# EAGLE library part IND_VP2 (library wheat)
INDUCTOR, COILTRONICS VP2 SERIES
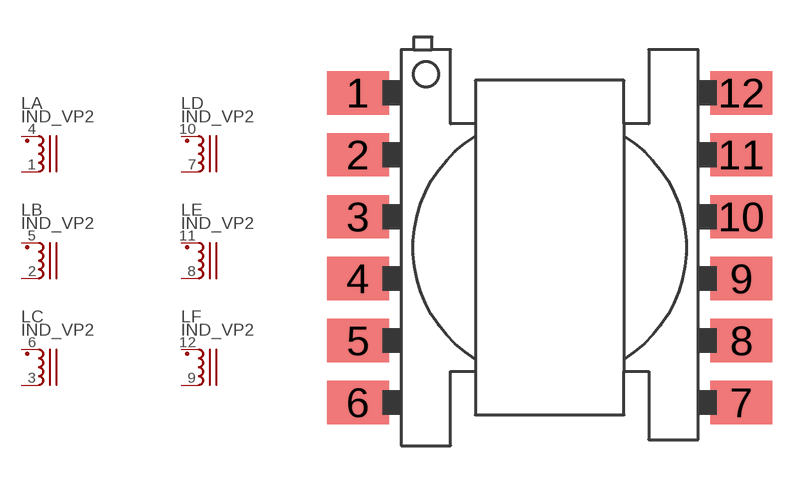
[diagram p65: symbol with the pads of IND_VP2; footprint IND_VP2]

Designator prefix L; gates A=IND B=IND C=IND D=IND E=IND F=IND

## IND_VP2  [IND_VP2]
1  A:2  pas
2  B:2  pas
3  C:2  pas
4  A:1  pas
5  B:1  pas
6  C:1  pas
7  D:2  pas
8  E:2  pas
9  F:2  pas
10  D:1  pas
11  E:1  pas
12  F:1  pas

## Footprint IND_VP2 (pad centres in mm)
Inductor/transformer, Coiltronics VP2
smd 2.5 x 1.75: 1 -7.75,6.25; 2 -7.75,3.75; 3 -7.75,1.25; 4 -7.75,-1.25; 5 -7.75,-3.75; 6 -7.75,-6.25; 7 7.75,-6.25; 8 7.75,-3.75; 9 7.75,-1.25; 10 7.75,1.25; 11 7.75,3.75; 12 7.75,6.25